# Altium schematic symbol library Schlib1.SchLib: 4 symbols
Pins are listed as number, name and electrical type; pins without a type are passive.

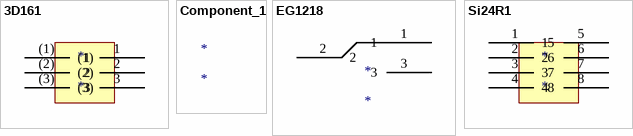
[diagram p0: symbols 3D161 to Si24R1]

## 3D161
designator *
footprint SW-TH_3D161
pins: 1, 2, 3, (1), (2), (3)

## Component_1
designator *

## EG1218
designator *
footprint SW-TH_EG1218
pins: 1, 2, 3

## Si24R1
designator *
footprint WIRELM-SMD_DL-SI24R1-A
pins: 1, 2, 3, 4, 5, 6, 7, 8